# Altium footprint library PCB - POWER INDUCTORS - EATON EXLA1V0707.PCBLIB: 1 footprints
Each footprint in its own frame and in the unit in brackets; x right, y up, seen from the top. Pads: shape width x height; smd on the part's side, far side on the other; paste and mask are expansions set on the pad; w line width, h text height; cw(c..) or ccw(c..) is an arc to the next point about the centre after c.
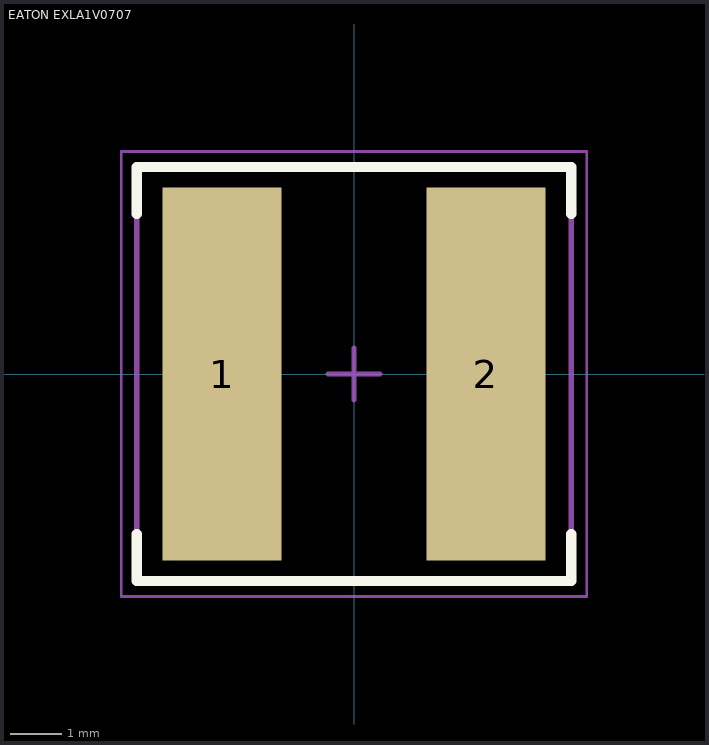
[diagram p0: the footprint, top view; thin cyan lines are the x and y axes]

## EATON EXLA1V0707 [mm] "Precision Wire Wound Inductor, 2-Leads, Body 8.40x8.00mm"
height 6
pads (2):
  rect 2.3x7.2 smd: 1(-2.55,0) 2(2.55,0)
Top Overlay:
  lines w0.2: -4.2,-3.1 -4.2,-4 4.2,-4 4.2,-3.1 ; -4.2,3.1 -4.2,4 4.2,4 4.2,3.1
Mechanical 13:
  lines w0.1: -4.2,-4 4.2,-4 4.2,4 -4.2,4 -4.2,-4
Mechanical 15:
  lines w0.05: -4.5,-4.3 4.5,-4.3 4.5,4.3 -4.5,4.3 -4.5,-4.3
  lines w0.1: -0.5,0 0.5,0 ; 0,-0.5 0,0.5
3D body "EATON EXLA1V0707.step": height 7, standoff 0, extent -4.2,-4 4.2,4